# Altium footprint library F_24PIN.PcbLib: 1 footprints
Each footprint in its own frame and in the unit in brackets; x right, y up, seen from the top. Pads: shape width x height; smd on the part's side, far side on the other; paste and mask are expansions set on the pad; w line width, h text height; cw(c..) or ccw(c..) is an arc to the next point about the centre after c.
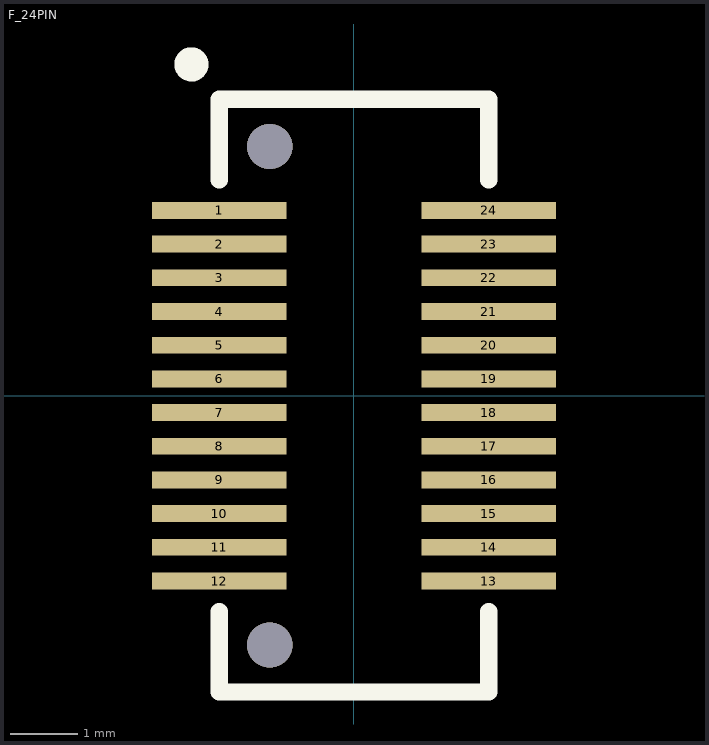
[diagram p0: the footprint, top view; thin cyan lines are the x and y axes]

## F_24PIN [mm] "0.5双槽板对板母座，24P"
pads (24):
  rect 2x0.25 smd: 1(-2,2.75) 2(-2,2.25) 3(-2,1.75) 4(-2,1.25) 5(-2,0.75) 6(-2,0.25) 7(-2,-0.25) 8(-2,-0.75) 9(-2,-1.25) 10(-2,-1.75) 11(-2,-2.25) 12(-2,-2.75) 13(2,-2.75) 14(2,-2.25) 15(2,-1.75) 16(2,-1.25) 17(2,-0.75) 18(2,-0.25) 19(2,0.25) 20(2,0.75) 21(2,1.25) 22(2,1.75) 23(2,2.25) 24(2,2.75)
via -1.25,3.7 diameter 0.67 hole 0.67
via -1.25,-3.7 diameter 0.67 hole 0.67
Top Overlay:
  circle w0.254: c-2.413,4.918 r0.127
  lines w0.254: -2,-3.2 -2,-4.4 2,-4.4 2,-3.2 ; -2,3.2 -2,4.4 2,4.4 2,3.2